# EAGLE library part DIL14MOD (library rkcustom)
Dual In Line / Socket
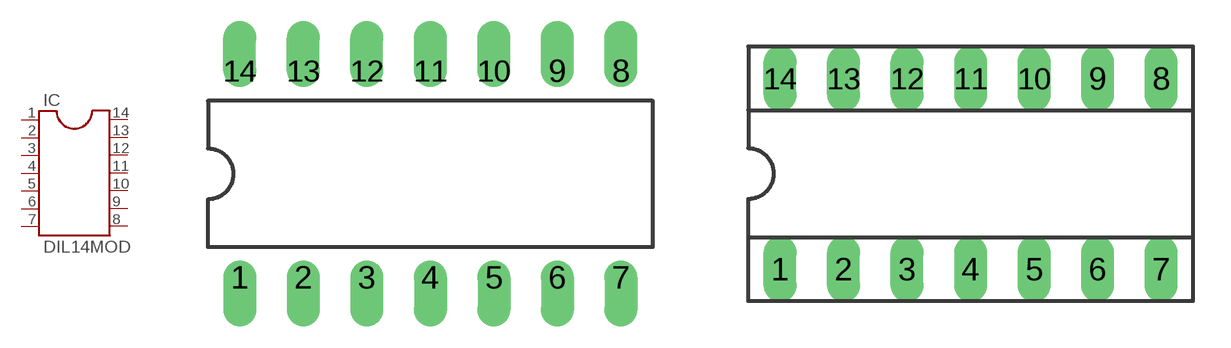
[diagram p2: symbol with the pads of DIL14MOD; footprints DIL14MOD, SOCKET-14]

Designator prefix IC

## DIL14MOD  [DIL14MOD]
1  1  pas
2  2  pas
3  3  pas
4  4  pas
5  5  pas
6  6  pas
7  7  pas
8  8  pas
9  9  pas
10  10  pas
11  11  pas
12  12  pas
13  13  pas
14  14  pas

## DIL14MODS  [SOCKET-14]
Pads as for DIL14MOD

## Footprint DIL14MOD (pad centres in mm)
Dual In Line Package
drill 0.813 offset: 1 -7.62,-4.128; 2 -5.08,-4.128; 3 -2.54,-4.128; 4 0,-4.128; 5 2.54,-4.128; 6 5.08,-4.128; 7 7.62,-4.128; 8 7.62,4.128; 9 5.08,4.128; 10 2.54,4.128; 11 0,4.128; 12 -2.54,4.128; 13 -5.08,4.128; 14 -7.62,4.128

## Footprint SOCKET-14 (pad centres in mm)
Dual In Line Socket
drill 0.813 long: 1 -7.62,-3.81; 2 -5.08,-3.81; 3 -2.54,-3.81; 4 0,-3.81; 5 2.54,-3.81; 6 5.08,-3.81; 7 7.62,-3.81; 8 7.62,3.81; 9 5.08,3.81; 10 2.54,3.81; 11 0,3.81; 12 -2.54,3.81; 13 -5.08,3.81; 14 -7.62,3.81